# Altium footprint library SpecialFunctionalPart.PcbLib: 6 footprints
Each footprint in its own frame and in the unit in brackets; x right, y up, seen from the top. Pads: shape width x height; smd on the part's side, far side on the other; paste and mask are expansions set on the pad; w line width, h text height; cw(c..) or ccw(c..) is an arc to the next point about the centre after c.
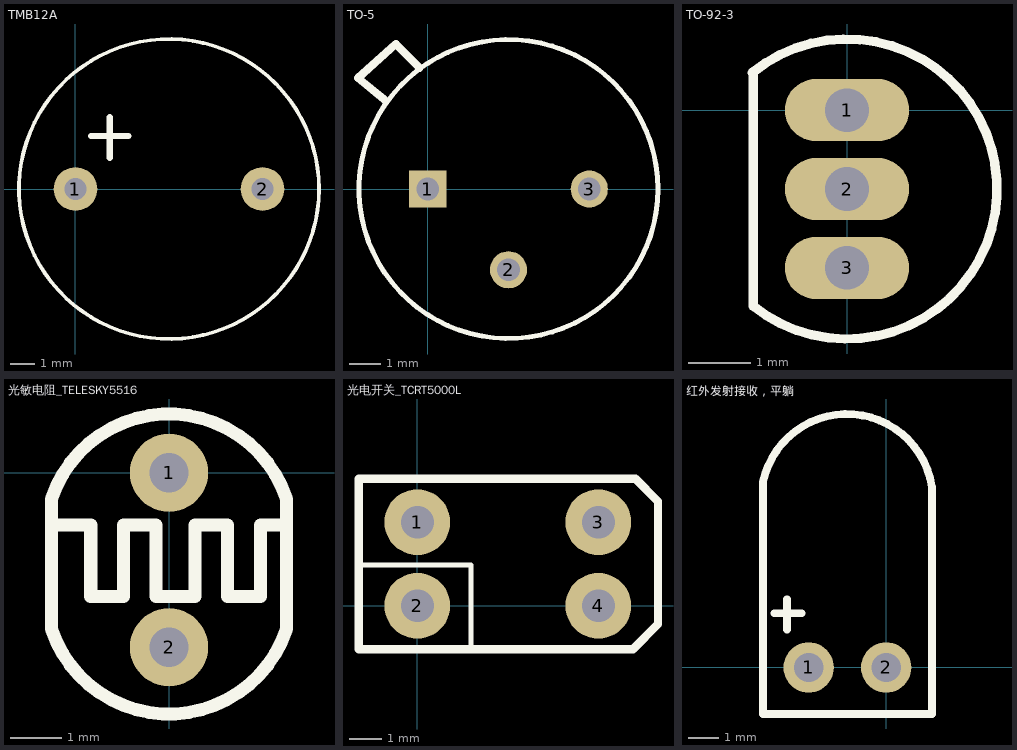
[diagram p0: the footprints below, top view; thin cyan lines are the x and y axes]

## TMB12A [mil]
pads (2):
  round 70 hole 35: 1(0,0) 2(299.2,0)
Top Overlay:
  circle w5.98: c149.6,0 r240
  lines w10: 25,85 85,85 ; 55,50 55,115

## TO-5 [mil] "热释电红外传感器"
pads (3):
  rect 46x46 hole 28: 1(0,0)
  round 46 hole 28: 2(100,-100) 3(200,0)
Top Overlay:
  circle w5.98: c100,0 r185
  lines w10: -54.11,111.09 -86.24,137.38 -39.47,179.47 -10,150
3D body: height 185.04, standoff -78.74, extent -79.13,-180 279.13,178.27
3D body: height 217.43, standoff -15.9, extent 90,15 90,15

## TO-92-3 [mm]
pads (3):
  oval 2x1 hole 0.7: 1(0,0) 2(0,-1.27) 3(0,-2.54)
Top Overlay:
  lines w0.1: -1.522,0.603 cw(c-1.522,0.589) -1.507,0.589
  lines w0.152: -1.522,0.603 cw(c0,-1.27) -1.507,-3.154 -1.507,0.589
3D body: height 4.82, standoff -14.7, extent -1.461,-3.744 2.159,1.016

## 光敏电阻_TELESKY5516 [mil]
pads (2):
  round 60 hole 30: 1(0,0) 2(0,-133.86)
Top Overlay:
  lines w10: -90,-40 -60,-40 -60,-95 -35,-95 -35,-40 -10,-40 -10,-95 20,-95 20,-40 45,-40 45,-95 70,-95 70,-40 90,-40 ; -90,-120 ccw(c0,-90.19) 90,-120 90,-20 ccw(c0,-49.81) -90,-20 -90,-120

## 光电开关_TCRT5000L [mm]
pads (4):
  round 2 hole 1: 1(0,2.54) 2(0,0) 3(5.502,2.54) 4(5.502,0)
Top Overlay:
  lines w0.154: -1.803,1.245 1.422,1.245 1.626,1.245 1.626,1.041 1.626,-1.27
  lines w0.254: -1.778,-1.321 6.553,-1.321 7.315,-0.559 7.315,3.175 6.629,3.861 -1.778,3.861 -1.778,2.845 -1.778,2.108 -1.778,-1.321

## 红外发射接收，平躺 [mil]
pads (2):
  round 65 hole 37.99: 1(-100,0) 2(0,0)
Top Overlay:
  lines w10: -144,70 -109,70 ; -128,49 -128,88 ; -159,-60 -159,238.96 cw(c-50.54,216.2) 59,233.05 59,-60 -159,-60